# Altium schematic symbol library Banana_jacks.SchLib: 5 symbols
Pins are listed as number, name and electrical type; pins without a type are passive.

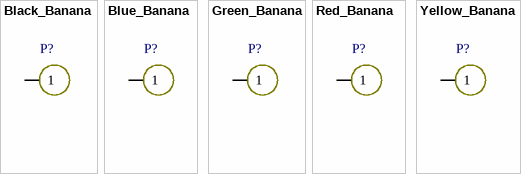
[diagram p0: symbols Black_Banana to Yellow_Banana]

## Black_Banana
designator P?
Banana Plug
footprint Black_Banana
pins: 1

## Blue_Banana
designator P?
Banana Plug
footprint Blue_Banana
pins: 1

## Green_Banana
designator P?
Banana Plug
footprint Green_Banana
pins: 1

## Red_Banana
designator P?
Banana Plug
footprint Red_Banana
pins: 1

## Yellow_Banana
designator P?
Banana Plug
footprint Yellow_Banana
pins: 1